# Altium schematic symbol library ACGRAT103L-HF.SchLib: 1 symbol
Pins are listed as number, name and electrical type; pins without a type are passive.

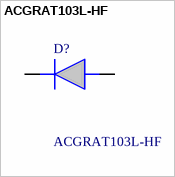
[diagram p0: symbol ACGRAT103L-HF]

## ACGRAT103L-HF
designator D?
Rectifiers LOW VF 1A 600V AEC-Q101; Manufacturer_Name: Comchip Technology; Geometry.Height: 1.16mm; Mouser Part Number: 750-ACGRAT103L-HF; Mouser Price/Stock: https://www.mouser.co.uk/ProductDetail/Comchip-Technology/ACGRAT103L-HF?qs=vdiGlTBG6Ju%2Fx90PaXpRhA%3D%3D; Manufacturer_Part_Number: ACGRAT103L-HF; Datasheet Link: https://4donline.ihs.com/images/VipMasterIC/IC/COMC/COMC-S-A0003293254/COMC-S-A0003293254-1.pdf?hkey=EF798316E3902B6ED9A73243A3159BB0
footprint DIOC4522X116N
pins: 1 K, 2 A